# Altium schematic symbol library PCB.PSU.DCDC.001.A1.SCHLIB: 12 symbols
Pins are listed as number, name and electrical type; pins without a type are passive.

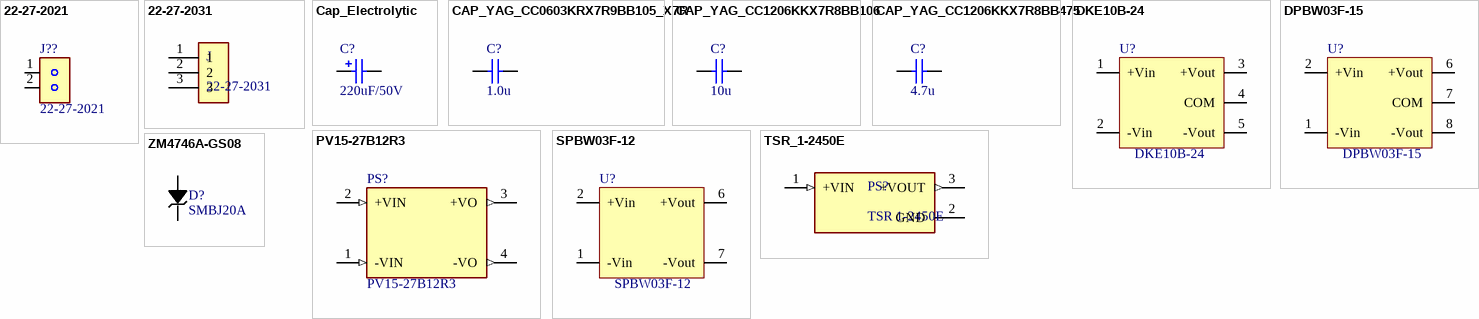
[diagram p0: symbols 22-27-2021 to ZM4746A-GS08]

## 22-27-2021
designator J??
Connector Wire to Board Header 2 Position 2.54mm Solder Straight Thru-Hole Ba; Package: None; Price: 0.3; Value: 22-27-2021; MPN: 22-27-2021; Availability: Unavailable
footprint HDRV2W64P254_1X2_580X508X1170P
pins: 1, 2

## 22-27-2031
designator J
Connector Header Through Hole 3 position 0.100 _2.54mm_; MFR: Molex; Value: 22-27-2031; Package: TQFP-144 Molex; Price: 0.43; MPN: 22-27-2031; Availability: Unavailable; SnapEDA_Link: https://www.snapeda.com/parts/22-27-2031/Molex/view-part/523256/?ref=snap
footprint MOLEX_22-27-2031
pins: 1, 2, 3

## Cap_Electrolytic
designator C?, comment 220uF/50V
CAP ALUM 220UF 20% 50V SMD; MPN: ESL227M050AH8AA; MFR: KEMET; Value: 220uF/50V; Price: 0.68
footprint CAP_ESL227M050AH8AA (Footprint not found)
pins: 1, 2
1 alternate drawing of the same symbol

## CAP_YAG_CC0603KRX7R9BB105_X7R
designator C?, comment 1.0u
Capacitor 1.0u 0603 +-10% 50V; Part Number: CAP_YAG_CC0603KRX7R9BB105_X7R; MFR: Yageo; MPN: CC0603KRX7R9BB105; Type: X7R; Voltage (V): 50; Category: Capacitor; Package / Case: 0603; Capacitor (Farad): 1.0u; Tolerance: +-10%; Thickness (mm): 0.8; Value: 1.0u
footprint C0603
pins: 1, 2

## CAP_YAG_CC1206KKX7R8BB106
designator C?, comment 10u
Capacitor 10u 1206 +-10% 25V; MFR: Yageo; MPN: CC1206KKX7R8BB106; Type: X7R; Voltage (V): 50; Category: Capacitor; Tolerance: +-10%; Value: 10u
footprint C1206 (CAPACITOR SMD 1206)
pins: 1, 2

## CAP_YAG_CC1206KKX7R8BB475
designator C?, comment 4.7u
Capacitor 4.7u 1206 +-10% 25V; MFR: Yageo; MPN: CC1206KKX7R8BB475; Type: X7R; Voltage (V): 50; Category: Capacitor; Tolerance: +-10%; Value: 4.7u
footprint C1206 (CAPACITOR SMD 1206)
pins: 1, 2

## DKE10B-24
designator U?
Isolated DC/DC Converters - Through Hole 18-36Vin +/-24Vout 21-210mA, 10W; MFR: MEAN WELL; MPN: DKE10B-24; Price: 22.3; Value: DKE10B-24
footprint DKE10B-24 (Footprint not found)
pins: 1 +Vin, 2 -Vin, 3 +Vout, 4 COM, 5 -Vout

## DPBW03F-15
designator U?
Isolated DC/DC Converters - Through Hole 9-36Vin +/-15Vout +/-100mA SIP Reg Iso; MFR: MEAN WELL; MPN: DPBW03F-15; Price: 10.8; Value: DPBW03F-15
footprint DPBW03F-15 (Footprint not found)
pins: 1 -Vin, 2 +Vin, 6 +Vout, 7 COM, 8 -Vout

## PV15-27B12R3
designator PS?
Isolated Module DC DC Converter 1 Output 12V - - - 1A 100V - 1000V Input; MFR: Mornsun America, LLC; MPN: PV15-27B12R3; Check_prices: https://www.snapeda.com/parts/PV15-27B15R3/MORNSUN/view-part/?ref=eda; Package: CUSTOM-4 MORNSUN; SnapEDA_Link: https://www.snapeda.com/parts/PV15-27B15R3/MORNSUN/view-part/?ref=snap; Value: PV15-27B12R3; Price: None; Availability: Not in stock
footprint CONV_PV15-27B12R3 (Footprint not found)
pins: 1 -VIN (in), 2 +VIN (in), 3 +VO (out), 4 -VO (out)

## SPBW03F-12
designator U?
Isolated DC/DC Converters - Through Hole 9-36Vin 12Vout 250mA SIP8 Reg Iso; MFR: MEAN WELL; MPN: SPBW03F-12; Price: 10.8; Value: SPBW03F-12
footprint SPBW03F-12 (Footprint not found)
pins: 1 -Vin, 2 +Vin, 6 +Vout, 7 -Vout

## TSR_1-2450E
designator PS?, comment TSR 1-2450E
1 Amp POL converter, industrial, 6-36 VDC input, pos.-pos. circuit, cost efficient, LM78 compatible, SIP-3; MFR: Traco Power; Check_prices: https://www.snapeda.com/parts/TSR%201-2450E/Traco%20Power/view-part/4817566/?ref=eda; MPN: TSR 1-2450E; Package: SIP-3 Traco Power; Price: 3.92; Availability: In Stock; Purchase-URL: https://pricing.snapeda.com/search/part/TSR 1-2450E/?ref=eda; SnapEDA_Link: https://www.snapeda.com/parts/TSR%201-2450E/Traco%20Power/view-part/4817566/?ref=snap; Value: TSR 1-2450E
footprint CONV_TSR_1-2450E (Footprint not found)
pins: 1 +VIN (in), 2 GND (power), 3 +VOUT (out)

## ZM4746A-GS08
designator D?, comment SMBJ20A
ESD Suppressors / TVS Diodes 600W, 23.4V, 5%, Unidirectional, TVS; MFR: Taiwan Semiconductor; Value: SMBJ20A; MPN: SMBJ20A
footprint DO-214AA2
pins: A, C